# Altium footprint library 51最小系统板.PcbLib: 22 footprints (part 1 of 2)
Each footprint in its own frame and in the unit in brackets; x right, y up, seen from the top. Pads: shape width x height; smd on the part's side, far side on the other; paste and mask are expansions set on the pad; w line width, h text height; cw(c..) or ccw(c..) is an arc to the next point about the centre after c.
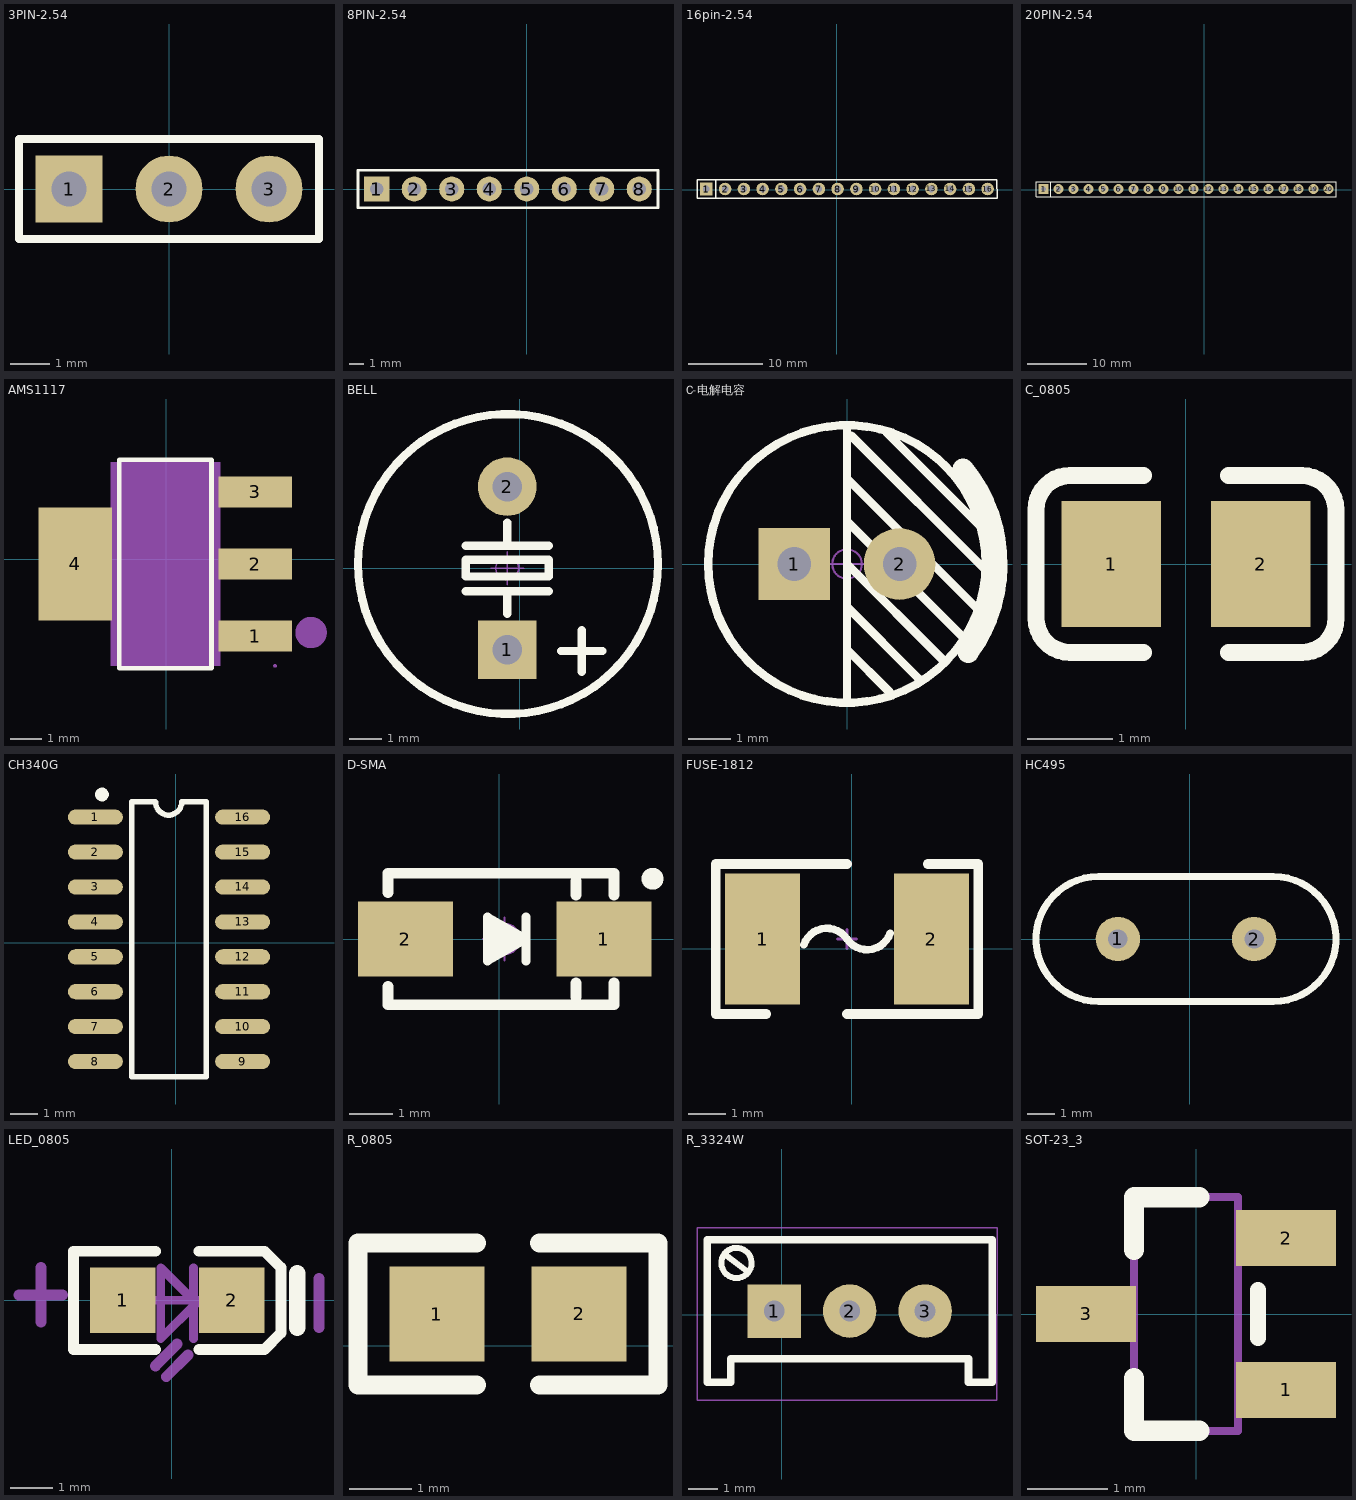
[diagram p0: the footprints below, top view; thin cyan lines are the x and y axes]

## 3PIN-2.54 [mm]
pads (3):
  rect 1.7x1.7 hole 0.9: 1(-2.54,0)
  round 1.7 hole 0.9: 2(0,0) 3(2.54,0)
Top Overlay:
  lines w0.2: -3.81,-1.27 -3.81,1.27 3.81,1.27 3.81,-1.27 -3.81,-1.27
3D body "HDR2.54-1P.STEP": height 8.5, standoff -3, extent 1.27,-1.27 3.81,1.27
3D body "HDR2.54-1P.STEP": height 8.5, standoff -3, extent -1.27,-1.27 1.27,1.27
3D body "HDR2.54-1P.STEP": height 8.5, standoff -3, extent -3.81,-1.27 -1.27,1.27

## 8PIN-2.54 [mm]
pads (8):
  rect 1.7x1.7 hole 0.9: 1(-10.16,0)
  round 1.7 hole 0.9: 2(-7.62,0) 3(-5.08,0) 4(-2.54,0) 5(0,0) 6(2.54,0) 7(5.08,0) 8(7.62,0)
Top Overlay:
  lines w0.2: -11.43,-1.27 -11.43,1.27 8.89,1.27 8.89,-1.27 -11.43,-1.27
3D body "HDR2.54-1P.STEP": height 8.5, standoff -3, extent 6.35,-1.27 8.89,1.27
3D body "HDR2.54-1P.STEP": height 8.5, standoff -3, extent 1.27,-1.27 3.81,1.27
3D body "HDR2.54-1P.STEP": height 8.5, standoff -3, extent 3.81,-1.27 6.35,1.27
3D body "HDR2.54-1P.STEP": height 8.5, standoff -3, extent -1.27,-1.27 1.27,1.27
3D body "HDR2.54-1P.STEP": height 8.5, standoff -3, extent -3.81,-1.27 -1.27,1.27
3D body "HDR2.54-1P.STEP": height 8.5, standoff -3, extent -6.35,-1.27 -3.81,1.27
3D body "HDR2.54-1P.STEP": height 8.5, standoff -3, extent -8.89,-1.27 -6.35,1.27
3D body "HDR2.54-1P.STEP": height 8.5, standoff -3, extent -11.43,-1.27 -8.89,1.27

## 16pin-2.54 [mm]
pads (16):
  rect 1.7x1.7 hole 0.9: 1(-17.653,0.127)
  round 1.7 hole 0.9: 2(-15.113,0.127) 3(-12.573,0.127) 4(-10.033,0.127) 5(-7.493,0.127) 6(-4.953,0.127) 7(-2.413,0.127) 8(0.127,0.127) 9(2.667,0.127) 10(5.207,0.127) 11(7.747,0.127) 12(10.287,0.127) 13(12.827,0.127) 14(15.367,0.127) 15(17.907,0.127) 16(20.447,0.127)
Top Overlay:
  lines w0.2: -16.403,-1.123 -16.403,1.377 ; -18.923,-1.143 -18.923,1.397 -17.018,1.397 21.717,1.397 21.717,-1.143 -18.923,-1.143
3D body "HDR-1P_Y.STEP": height 4.31, standoff -3, extent -18.923,-1.143 -16.383,1.397
3D body "HDR-1P_Y.STEP": height 4.31, standoff -3, extent -16.383,-1.143 -13.843,1.397
3D body "HDR-1P_Y.STEP": height 4.31, standoff -3, extent -13.843,-1.143 -11.303,1.397
3D body "HDR-1P_Y.STEP": height 4.31, standoff -3, extent -11.303,-1.143 -8.763,1.397
3D body "HDR-1P_Y.STEP": height 4.31, standoff -3, extent -8.763,-1.143 -6.223,1.397
3D body "HDR-1P_Y.STEP": height 4.31, standoff -3, extent -6.223,-1.143 -3.683,1.397
3D body "HDR-1P_Y.STEP": height 4.31, standoff -3, extent -3.683,-1.143 -1.143,1.397
3D body "HDR-1P_Y.STEP": height 4.31, standoff -3, extent -1.143,-1.143 1.397,1.397
3D body "HDR-1P_Y.STEP": height 4.31, standoff -3, extent 1.397,-1.143 3.937,1.397
3D body "HDR-1P_Y.STEP": height 4.31, standoff -3, extent 3.937,-1.143 6.477,1.397
3D body "HDR-1P_Y.STEP": height 4.31, standoff -3, extent 6.477,-1.143 9.017,1.397
3D body "HDR-1P_Y.STEP": height 4.31, standoff -3, extent 9.017,-1.143 11.557,1.397
3D body "HDR-1P_Y.STEP": height 4.31, standoff -3, extent 11.557,-1.143 14.097,1.397
3D body "HDR-1P_Y.STEP": height 4.31, standoff -3, extent 14.097,-1.143 16.637,1.397
3D body "HDR-1P_Y.STEP": height 4.31, standoff -3, extent 16.637,-1.143 19.177,1.397
3D body "HDR-1P_Y.STEP": height 4.31, standoff -3, extent 19.177,-1.143 21.717,1.397

## 20PIN-2.54 [mm]
pads (20):
  rect 1.7x1.7 hole 0.9: 1(-27.178,0.127)
  round 1.7 hole 0.9: 2(-24.638,0.127) 3(-22.098,0.127) 4(-19.558,0.127) 5(-17.018,0.127) 6(-14.478,0.127) 7(-11.938,0.127) 8(-9.398,0.127) 9(-6.858,0.127) 10(-4.318,0.127) 11(-1.778,0.127) 12(0.762,0.127) 13(3.302,0.127) 14(5.842,0.127) 15(8.382,0.127) 16(10.922,0.127)
  round 1.7 hole 0.762: 17(13.462,0.127) 18(16.002,0.127) 19(18.542,0.127) 20(21.082,0.127)
Top Overlay:
  lines w0.2: -25.928,-1.123 -25.928,1.377 ; -28.448,-1.143 22.352,-1.143 22.352,1.397 -26.543,1.397 -28.448,1.397 -28.448,-1.143
3D body "HDR2.54-1P_M.STEP": height 8.5, standoff -3, extent -18.288,-1.143 -15.748,1.397
3D body "HDR2.54-1P_M.STEP": height 8.5, standoff -3, extent -20.828,-1.143 -18.288,1.397
3D body "HDR2.54-1P_M.STEP": height 8.5, standoff -3, extent -23.368,-1.143 -20.828,1.397
3D body "HDR2.54-1P_M.STEP": height 8.5, standoff -3, extent -25.908,-1.143 -23.368,1.397
3D body "HDR2.54-1P_M.STEP": height 8.5, standoff -3, extent -28.448,-1.143 -25.908,1.397
3D body "HDR2.54-1P_M.STEP": height 8.5, standoff -3, extent -5.588,-1.143 -3.048,1.397
3D body "HDR2.54-1P_M.STEP": height 8.5, standoff -3, extent -8.128,-1.143 -5.588,1.397
3D body "HDR2.54-1P_M.STEP": height 8.5, standoff -3, extent -10.668,-1.143 -8.128,1.397
3D body "HDR2.54-1P_M.STEP": height 8.5, standoff -3, extent -13.208,-1.143 -10.668,1.397
3D body "HDR2.54-1P_M.STEP": height 8.5, standoff -3, extent -15.748,-1.143 -13.208,1.397
3D body "HDR2.54-1P_M.STEP": height 8.5, standoff -3, extent 7.112,-1.143 9.652,1.397
3D body "HDR2.54-1P_M.STEP": height 8.5, standoff -3, extent 4.572,-1.143 7.112,1.397
3D body "HDR2.54-1P_M.STEP": height 8.5, standoff -3, extent 2.032,-1.143 4.572,1.397
3D body "HDR2.54-1P_M.STEP": height 8.5, standoff -3, extent -0.508,-1.143 2.032,1.397
3D body "HDR2.54-1P_M.STEP": height 8.5, standoff -3, extent -3.048,-1.143 -0.508,1.397
3D body "HDR2.54-1P_M.STEP": height 8.5, standoff -3, extent 19.812,-1.143 22.352,1.397
3D body "HDR2.54-1P_M.STEP": height 8.5, standoff -3, extent 17.272,-1.143 19.812,1.397
3D body "HDR2.54-1P_M.STEP": height 8.5, standoff -3, extent 14.732,-1.143 17.272,1.397
3D body "HDR2.54-1P_M.STEP": height 8.5, standoff -3, extent 12.192,-1.143 14.732,1.397
3D body "HDR2.54-1P_M.STEP": height 8.5, standoff -3, extent 9.652,-1.143 12.192,1.397

## AMS1117 [mm]
pads (4):
  rect 2.34x0.98 smd: 1(2.846,-2.454) 2(2.846,-0.154) 3(2.846,2.146)
  rect 2.34x3.6 smd: 4(-2.894,-0.154)
Top Overlay:
  lines w0.152: -1.495,-3.48 1.447,-3.48 1.447,3.173 -1.495,3.173 -1.495,-3.48
Mechanical 4:
  region: -1.774,-3.404 -1.774,3.096 1.726,3.096 1.726,-3.404
Mechanical 5:
  region: -3.524,-1.654 -3.524,1.346 -2.774,1.346 -2.774,-1.654
  pour cut-out: -2.784,-1.654 -2.784,1.346 -1.764,1.346 -1.764,-1.654
  region: 2.726,-2.829 2.726,-2.079 3.476,-2.079 3.476,-2.829
  pour cut-out: 1.716,-2.829 1.716,-2.079 2.736,-2.079 2.736,-2.829
  region: 2.726,-0.529 2.726,0.221 3.476,0.221 3.476,-0.529
  pour cut-out: 1.716,-0.529 1.716,0.221 2.736,0.221 2.736,-0.529
  region: 2.726,1.771 2.726,2.521 3.476,2.521 3.476,1.771
  pour cut-out: 1.716,1.771 1.716,2.521 2.736,2.521 2.736,1.771
Mechanical 6:
  circle w0.06: c3.476,-3.404 r0.03
Mechanical 15:
  circle w0.5: c4.628,-2.341 r0.25
3D body: height 0.25, standoff 0, extent -1.524,-3.429 1.397,3.175

## BELL [mm]
pads (2):
  rect 1.8x1.8 hole 0.9: 1(-0.381,-2.5)
  round 1.8 hole 0.9: 2(-0.381,2.5)
Top Overlay:
  circle w0.254: c-0.358,0.127 r4.6
  lines w0.254: -1.651,-0.709 0.889,-0.709 ; -1.651,0.685 0.889,0.685 ; -0.381,-1.397 -0.381,-0.709 ; -0.381,0.812 -0.381,1.397 ; 1.27,-2.54 2.54,-2.54 ; 1.905,-3.175 1.905,-1.905 ; -1.651,-0.254 0.889,-0.254 0.889,0.254 -1.651,0.254 -1.651,-0.254
Mechanical 15:
  circle w0.05: c-0.381,0 r0.35
  lines w0.05: -0.881,0 0.119,0 ; -0.381,-0.5 -0.381,0.5
3D body "BEEP 5x9x5.5.STEP": height 5.45, standoff -3.55, extent -4.881,-4.5 4.119,4.5

## C-电解电容 [mm]
pads (2):
  rect 1.7x1.7 hole 0.8: 1(-1.25,0)
  round 1.7 hole 0.8: 2(1.25,0)
Top Overlay:
  circle w0.2: c0,0 r3.3
  lines w0.2: 0,-3.226 0,3.277 ; 0,-2.032 1.016,-3.048 ; 0,-1.016 1.727,-2.743 ; 0,0 2.299,-2.299 ; 0,1.016 2.769,-1.753 2.87,-1.753 ; 0,2.032 3.099,-1.067 ; 0,3.048 0.102,3.048 3.302,-0.152 ; 0.927,3.137 3.124,0.94 3.2,0.94
  lines w0.504: 2.759,2.258 cw(c0,0) 2.883,-2.097
Mechanical 15:
  circle w0.05: c0,0 r0.35
  lines w0.05: -0.5,0 0.5,0 ; 0,-0.5 0,0.5
3D body "CAP 2.5X6.3X11.2.STEP": height 11.24, standoff -3.37, extent -3.15,-3.15 3.16,3.15

## C_0805 [mm]
pads (2):
  rect 1.16x1.47 smd: 1(-0.875,0) 2(0.875,0)
Top Overlay:
  lines w0.2: -0.5,-1.035 -1.355,-1.035 cw(c-1.355,-0.635) -1.755,-0.635 -1.755,0.635 cw(c-1.355,0.635) -1.355,1.035 -0.5,1.035 ; 0.5,-1.035 1.355,-1.035 ccw(c1.355,-0.635) 1.755,-0.635 1.755,0.635 ccw(c1.355,0.635) 1.355,1.035 0.5,1.035
3D body "User Library-0805 SMD Capacitor.STEP": height 0.77, standoff -0.01, extent -1,-0.625 1.001,0.625

## CH340G [mil]
pads (16):
  oval 78.74x21.65 smd: 1(-115,180) 2(-115,130) 3(-115,80) 4(-115,30) 5(-115,-20) 6(-115,-70) 7(-115,-120) 8(-115,-170) 9(96,-170) 10(96,-120) 11(96,-70) 12(96,-20) 13(96,30) 14(96,80) 15(96,130) 16(96,180)
Top Overlay:
  circle w9.84: c-105.47,212.48 r4.92
  lines w7.87: -29,201.85 -63,201.85 -63,-191.85 44,-191.85 44,201.85 8.68,201.85 ; -28.68,201.72 ccw(c-10,201.68) 8.68,201.72
3D body "SO-16.STEP": height 57, standoff 0, extent -125.24,-190.99 107.25,202.01

## D-SMA [mm]
pads (2):
  rect 2.2x1.75 smd: 1(2.427,0) 2(-2.173,0)
Top Overlay:
  circle w0.254: c3.556,1.397 r0.127
  lines w0.203: 0.621,-0.508 0.621,0.508 ; -0.268,-0.508 -0.268,0.508 0.621,0 -0.268,-0.508
  lines w0.254: -2.573,-1.105 -2.573,-1.524 2.667,-1.524 2.667,-1.016 ; -2.573,1.08 -2.573,1.524 2.667,1.524 2.667,1.016 ; -0.203,0.305 0.432,0 -0.127,-0.305 -0.127,0.051 0.15,0 ; 1.778,-1.35 1.778,-1.016 ; 1.778,1.016 1.778,1.35
Mechanical 15:
  circle w0.05: c0.127,0 r0.35
  lines w0.05: -0.373,0 0.627,0 ; 0.127,-0.5 0.127,0.5
3D body "SMA.STEP": height 2.15, standoff 0.04, extent -2.401,-1.3 2.702,1.3

## FUSE-1812 [mm]
pads (2):
  rect 2x3.5 smd: 1(-2.377,0.254) 2(2.123,0.254)
Top Overlay:
  lines w0.203: -1.277,0.098 cw(c-0.664,-0.108) -0.127,0.254 ccw(c0.41,0.616) 1.023,0.41
  lines w0.254: -2.286,-1.746 -3.627,-1.746 -3.627,2.254 -0.127,2.254 ; -0.127,-1.746 3.373,-1.746 3.373,2.254 2.032,2.254
Mechanical 15:
  lines w0.076: -0.381,0.254 0.127,0.254 ; -0.127,0 -0.127,0.508
3D body "FU 01812.STEP": height 0.87, standoff 0, extent -2.427,-1.356 2.173,1.864

## HC495 [mm]
pads (2):
  round 1.6 hole 0.7: 1(-2.577,0) 2(2.323,0)
Top Overlay:
  lines w0.254: -3.277,-2.248 cw(c-3.277,0) -3.277,2.248 3.023,2.248 cw(c3.023,0) 3.023,-2.248 -3.277,-2.248
3D body "hc-49s_n.stp": height 3.6, standoff -2.9, extent -5.515,-2.27 5.285,2.23

## LED_0805 [mil]
pads (2):
  rect 60x60 smd: 1(-45,0) 2(55,0)
Top Overlay:
  lines w10: -15,-45 -90,-45 -90,45 -15,45 ; 25,-45 85,-45 100,-30 100,30 85,45 72.5,45 37.5,45 25,45
  lines w15: 115,-25 115,25
Mechanical 13:
  lines w8: -20,0 30,0 ; 20,-35 20,30 ; -10,-35 -10,30 22.5,-2.5 -10,-35
  lines w10: -15,-60 5,-40 ; -5,-70 15,-50
Mechanical 15:
  lines w10: -140,5 -100,5 ; -120,-20 -120,30 ; 135,-25 135,20
3D body "11.STEP": height 31.69, standoff -0.04, extent -34.37,-24.29 44.37,25

## R_0805 [mil]
pads (2):
  rect 60x60 smd: 1(150,20) 2(240,20)
Top Overlay:
  lines w12: 175,-25 100,-25 100,65 175,65 ; 215,-25 290,-25 290,65 215,65
3D body "RES0805.STEP": height 15, standoff -1.14, extent 151.26,-4.61 230,44.61

## R_3324W [mm] "电位器"
pads (3):
  rect 1.8x1.8 hole 0.7: 1(-0.254,0.127)
  round 1.8 hole 0.7: 2(2.286,0.127) 3(4.826,0.127)
Top Overlay:
  lines w0.2: -1.016,1.778 ccw(c-1.524,1.745) -1.015,1.735
  lines w0.203: -1.914,2.027 -1.178,1.475
  lines w0.254: -2.514,-2.273 -2.514,2.527 7.086,2.527 7.086,-2.273 6.286,-2.273 6.286,-1.473 -1.714,-1.473 -1.714,-2.273 -2.514,-2.273
Mechanical 15:
  lines w0.05: -2.854,-2.873 7.246,-2.873 7.246,2.927 -2.854,2.927 -2.854,-2.873
3D body "3296.STEP": height 11.52, standoff -3.48, extent -2.464,-2.273 7.036,2.527

## SOT-23_3 [mm]
pads (3):
  rect 1.25x0.7 smd: 1(1.123,-0.95) 2(1.123,0.95) 3(-1.377,0)
Top Overlay:
  lines w0.2: 0.773,-0.3 0.773,0.3
  lines w0.254: -0.777,-0.8 -0.777,-1.46 0.038,-1.46 ; 0.038,1.46 -0.777,1.46 ; -0.777,0.8 -0.777,1.46 ; -0.777,0.8 -0.777,1.46 ; -0.777,0.8 -0.777,1.46
Mechanical 13:
  lines w0.1: -0.777,-1.46 -0.777,1.46 ; -0.777,-1.46 0.523,-1.46 ; -0.777,-1.46 -0.777,1.46 ; -0.777,-1.46 0.523,-1.46 ; -0.777,-1.46 0.523,-1.46 ; -0.777,-1.46 -0.777,1.46 ; -0.777,1.46 0.523,1.46 ; -0.777,1.46 0.523,1.46 ; -0.777,1.46 0.523,1.46 ; 0.523,-1.46 0.523,1.46 ; 0.523,-1.46 0.523,1.46 ; 0.523,-1.46 0.523,1.46
3D body "SOT-23-3.STEP": height 1.2, standoff 0, extent -1.527,-1.45 1.273,1.45